# EAGLE library part ADS1015 (library customy)
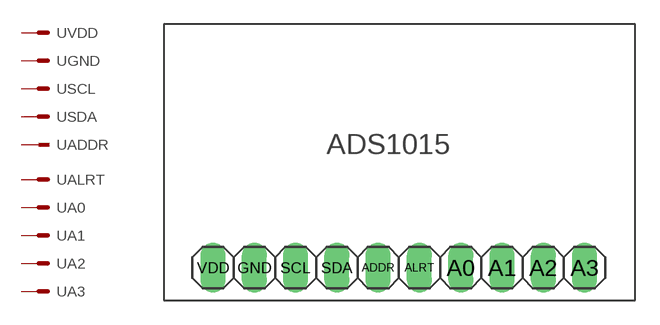
[diagram p3: symbol with the pads of EXT_ADC; footprint EXT_ADC]

Designator prefix -; gates ADDR=PIN SDA=M SCL=M GND=M VDD=M ALRT=M A0=M A1=M A2=M A3=M

## ADS1015  [EXT_ADC]
A0  A0:S  pas
A1  A1:S  pas
A2  A2:S  pas
A3  A3:S  pas
ADDR  ADDR:1  pas
ALRT  ALRT:S  pas
GND  GND:S  pas
SCL  SCL:S  pas
SDA  SDA:S  pas
VDD  VDD:S  pas

## Footprint EXT_ADC (pad centres in mm)
PIN HEADER
drill 1.016 long: A0 1.27,0; A1 3.81,0; A2 6.35,0; A3 8.89,0; ADDR -3.81,0; ALRT -1.27,0; GND -11.43,0; SCL -8.89,0; SDA -6.35,0; VDD -13.97,0